# Altium schematic symbol library 10-Xtal_lib.SchLib: 3 symbols
Pins are listed as number, name and electrical type; pins without a type are passive.

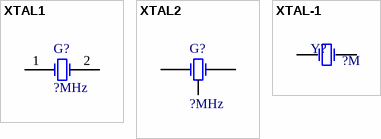
[diagram p0: symbols XTAL1 to XTAL-1]

## XTAL1
designator G?, comment ?MHz
Crystal Oscillator; Published: 8-Jun-2000; LatestRevisionDate: 17-Jul-2002; LatestRevisionNote: Re-released for DXP Platform.; Publisher: Altium Limited
footprint XTAL2
footprint XTAL-SMD2
footprint X3215
footprint XX5032
pins: 1 OSC1, 2 OSC2

## XTAL2
designator G?, comment ?MHz
Crystal Oscillator; value: 8M; Published: 8-Jun-2000; LatestRevisionDate: 17-Jul-2002; LatestRevisionNote: Re-released for DXP Platform.; Publisher: Altium Limited
footprint CRYSTAL_DIP(EMC)
pins: 1 OSC1, 2 OSC2, 3 GND
2 alternate drawings of the same symbol

## XTAL-1
designator Y?  value ?M  (hidden comment: XTAL-1)
无源晶振; 精度: 10%; 价格: 0.8; 版本: 2015-V1.0
footprint XTAL-3
footprint XTAL-SMD2
pins: 1 OSC1, 2 OSC2